# Altium integrated library SY8089.IntLib: 1 symbol
Pins are listed as number, name and electrical type; pins without a type are passive.

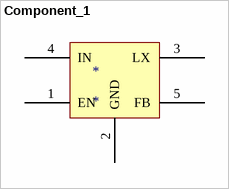
[diagram p0: symbol Component_1]

## Component_1
designator *
footprint PCBComponent_1
pins: 1 EN, 2 GND, 3 LX, 4 IN, 5 FB